# Altium schematic symbol library R_Isense.SchLib: 1 symbol
Pins are listed as number, name and electrical type; pins without a type are passive.

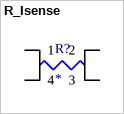
[diagram p0: symbol R_Isense]

## R_Isense
designator R?
pins: 1, 2, 3, 4